# EAGLE library part SKAARDUINO_BACK_SERIAL (library SKAARHOJ)
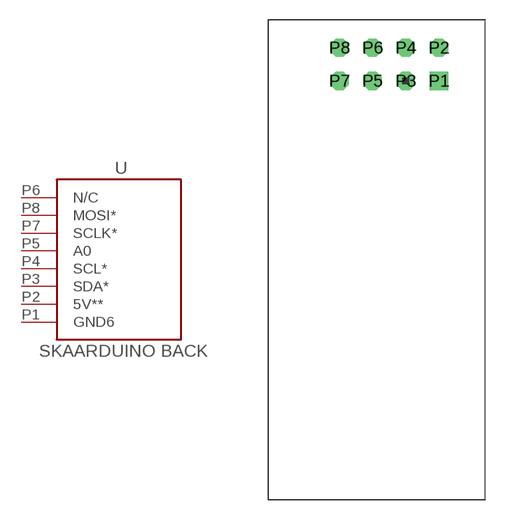
[diagram p66: symbol with the pads of SKAARDUINO_BACK_PTH_SERIAL; footprint SKAARDUINO_BACK_PTH_SERIAL]

Designator prefix -

## SKAARDUINO_BACK_SERIAL  [SKAARDUINO_BACK_PTH_SERIAL]
P1  GND6  pwr
P2  5V**  pwr
P3  SDA*
P4  SCL*
P5  A0
P6  N/C
P7  SCLK*  out
P8  MOSI*  out

## Footprint SKAARDUINO_BACK_PTH_SERIAL (pad centres in mm)
drill 0.9 square: P1 13.97,32.131
drill 0.9 octagon: P2 13.97,34.671; P3 11.43,32.131; P4 11.43,34.671; P5 8.89,32.131; P6 8.89,34.671; P7 6.35,32.131; P8 6.35,34.671